# Altium footprint library Revo_connector.PcbLib: 95 footprints (part 2 of 6)
Each footprint in its own frame and in the unit in brackets; x right, y up, seen from the top. Pads: shape width x height; smd on the part's side, far side on the other; paste and mask are expansions set on the pad; w line width, h text height; cw(c..) or ccw(c..) is an arc to the next point about the centre after c.
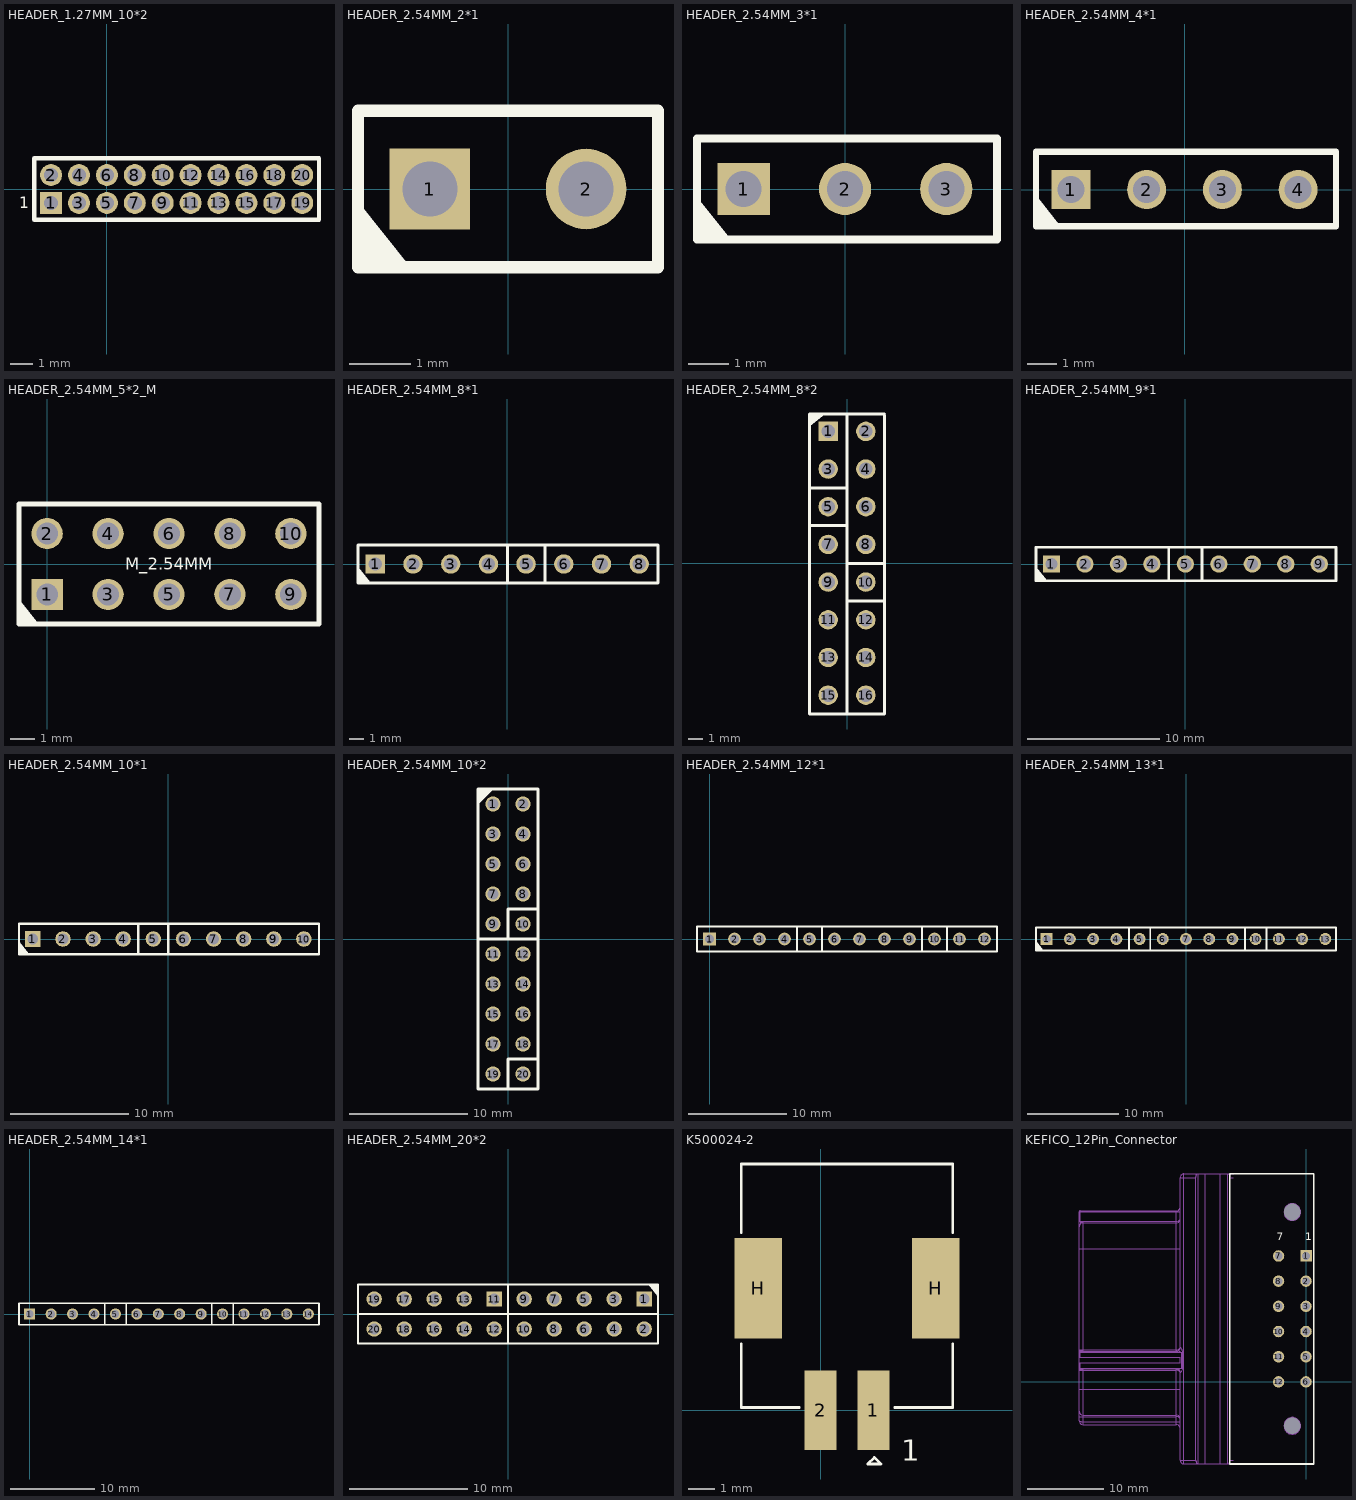
[diagram p1: the footprints below, top view; thin cyan lines are the x and y axes]

## HEADER_1.27MM_10*2 [mm] "HEADER_1.27MM_10*2"
pads (20):
  rect 1x1 hole 0.65 mask+0.05: 1(-2.54,-0.635)
  round 1 hole 0.65 mask+0.05: 2(-2.54,0.635) 3(-1.27,-0.635) 4(-1.27,0.635) 5(0,-0.635) 6(0,0.635) 7(1.27,-0.635) 8(1.27,0.635) 9(2.54,-0.635) 10(2.54,0.635) 11(3.81,-0.635) 12(3.81,0.635) 13(5.08,-0.635) 14(5.08,0.635) 15(6.35,-0.635) 16(6.35,0.635) 17(7.62,-0.635) 18(7.62,0.635) 19(8.89,-0.635) 20(8.89,0.635)
Top Overlay:
  lines w0.203: -3.302,-1.397 -3.302,1.397 9.652,1.397 9.652,-1.397 -3.302,-1.397
  text "1" at -4,-0.865 h0.51

## HEADER_2.54MM_2*1 [mm] "Header Pin 2.54mm pitch 2Pin(2X1)"
pads (2):
  rect 1.31x1.31 hole 0.9 mask+0.1: 1(-1.27,0)
  round 1.31 hole 0.9 mask+0.1: 2(1.27,0)
Top Overlay:
  region: -2.42,-0.23 -2.42,-1.23 -1.62,-1.23
  lines w0.203: -2.44,-1.27 -2.44,1.27 2.44,1.27 2.44,-1.27 -2.395,-1.27
3D body "User Library-Header Vertical 2_54mm Pitch2-1.step": height 6.04, standoff -2.84, extent 0,-1.27 2.54,1.27
3D body "User Library-Header Vertical 2_54mm Pitch2-1.step": height 6.04, standoff -2.84, extent -2.54,-1.27 0,1.27

## HEADER_2.54MM_3*1 [mm] "Header Pin 2.54mm pitch 3Pin(3X1)"
pads (3):
  rect 1.31x1.31 hole 0.9 mask+0.1: 1(-2.54,0)
  round 1.31 hole 0.9 mask+0.1: 2(0,0) 3(2.54,0)
Top Overlay:
  region: -3.69,-0.23 -3.69,-1.23 -2.89,-1.23
  lines w0.203: -3.71,-1.27 -3.71,1.27 3.81,1.27 3.81,-1.27 -3.665,-1.27

## HEADER_2.54MM_4*1 [mm] "Header Pin 2.54mm pitch 4Pin(4X1)"
pads (4):
  rect 1.31x1.31 hole 0.9 mask+0.1: 1(-3.81,0)
  round 1.31 hole 0.9 mask+0.1: 2(-1.27,0) 3(1.27,0) 4(3.81,0)
Top Overlay:
  region: -4.96,-0.23 -4.96,-1.23 -4.16,-1.23
  lines w0.203: -4.98,-1.23 -4.98,1.27 5.08,1.27 5.08,-1.23 -4.935,-1.23

## HEADER_2.54MM_5*2_M [mm] "Header Pin 2.54mm pitch 10Pin(5X2)_3D"
pads (10):
  rect 1.31x1.31 hole 0.9 mask+0.1: 1(0,-1.27)
  round 1.31 hole 0.9 mask+0.1: 2(0,1.27) 3(2.54,-1.27) 4(2.54,1.27) 5(5.08,-1.27) 6(5.08,1.27) 7(7.62,-1.27) 8(7.62,1.27) 9(10.16,-1.27) 10(10.16,1.27)
Top Overlay:
  region: -1.15,-1.5 -1.15,-2.5 -0.35,-2.5
  lines w0.203: -1.17,-2.5 -1.17,2.5 ; -1.125,-2.5 11.25,-2.5 ; -1.125,2.5 11.25,2.5 ; 11.33,-2.5 11.33,2.5
  text "M_2.54MM" at 3.25,-0.25 h0.5
3D body "User Library-Header Vertical 2_54mm Pitch2-1.step": height 6.04, standoff -2.84, extent -1.27,-2.54 1.27,0
3D body "User Library-Header Vertical 2_54mm Pitch2-1.step": height 6.04, standoff -2.84, extent 1.27,-2.54 3.81,0
3D body "User Library-Header Vertical 2_54mm Pitch2-1.step": height 6.04, standoff -2.84, extent 3.81,-2.54 6.35,0
3D body "User Library-Header Vertical 2_54mm Pitch2-1.step": height 6.04, standoff -2.84, extent 6.35,-2.54 8.89,0
3D body "User Library-Header Vertical 2_54mm Pitch2-1.step": height 6.04, standoff -2.84, extent 8.89,-2.54 11.43,0
3D body "User Library-Header Vertical 2_54mm Pitch2-1.step": height 6.04, standoff -2.84, extent 8.89,0 11.43,2.54
3D body "User Library-Header Vertical 2_54mm Pitch2-1.step": height 6.04, standoff -2.84, extent 6.35,0 8.89,2.54
3D body "User Library-Header Vertical 2_54mm Pitch2-1.step": height 6.04, standoff -2.84, extent 3.81,0 6.35,2.54
3D body "User Library-Header Vertical 2_54mm Pitch2-1.step": height 6.04, standoff -2.84, extent 1.27,0 3.81,2.54
3D body "User Library-Header Vertical 2_54mm Pitch2-1.step": height 6.04, standoff -2.84, extent -1.27,0 1.27,2.54

## HEADER_2.54MM_8*1 [mm] "Header Pin 2.54mm pitch 8Pin(8X1)"
pads (8):
  rect 1.31x1.31 hole 0.9 mask+0.1: 1(-8.89,0)
  round 1.31 hole 0.9 mask+0.1: 2(-6.35,0) 3(-3.81,0) 4(-1.27,0) 5(1.27,0) 6(3.81,0) 7(6.35,0) 8(8.89,0)
Top Overlay:
  region: -10.04,-0.23 -10.04,-1.23 -9.24,-1.23
  lines w0.203: -10.06,-1.27 -10.06,1.27 10.16,1.27 10.16,-1.27 -10.015,-1.27 ; 0,-1.27 0,1.27 ; 2.54,-1.27 2.54,1.27

## HEADER_2.54MM_8*2 [mm] "Header Pin 2.54mm pitch 16Pin(8X2)"
pads (16):
  rect 1.31x1.31 hole 0.9 mask+0.1: 1(-1.27,8.89)
  round 1.31 hole 0.9 mask+0.1: 2(1.27,8.89) 3(-1.27,6.35) 4(1.27,6.35) 5(-1.27,3.81) 6(1.27,3.81) 7(-1.27,1.27) 8(1.27,1.27) 9(-1.27,-1.27) 10(1.27,-1.27) 11(-1.27,-3.81) 12(1.27,-3.81) 13(-1.27,-6.35) 14(1.27,-6.35) 15(-1.27,-8.89) 16(1.27,-8.89)
Top Overlay:
  region: -1.5,10.04 -2.5,10.04 -2.5,9.24
  lines w0.203: -2.54,2.54 0,2.54 ; -2.54,5.08 0,5.08 ; -2.54,10.015 -2.54,-10.16 0,-10.16 ; -2.54,10.06 0,10.06 ; 0,-2.54 2.54,-2.54 ; 0,0 2.54,0 ; 2.54,9.96 2.54,-10.16 0,-10.16 ; 2.54,10.06 0,10.06 ; 0,-10.16 0,10.06

## HEADER_2.54MM_9*1 [mm] "Header Pin 2.54mm pitch 9Pin(9X1)"
pads (9):
  rect 1.31x1.31 hole 0.9 mask+0.1: 1(-10.16,0)
  round 1.31 hole 0.9 mask+0.1: 2(-7.62,0) 3(-5.08,0) 4(-2.54,0) 5(0,0) 6(2.54,0) 7(5.08,0) 8(7.62,0) 9(10.16,0)
Top Overlay:
  region: -11.31,-0.23 -11.31,-1.23 -10.51,-1.23
  lines w0.203: -11.33,-1.27 -11.33,1.27 11.43,1.27 11.43,-1.27 -11.285,-1.27 ; -1.27,-1.27 -1.27,1.27 ; 1.27,-1.27 1.27,1.27

## HEADER_2.54MM_10*1 [mm] "Header Pin 2.54mm pitch 10Pin(10X1)"
pads (11):
  rect 1.31x1.31 hole 0.9 mask+0.1: 1(-11.43,0)
  round 1.31 hole 0.9 mask+0.1: 2(-8.89,0) 3(-6.35,0) 4(-3.81,0) 5(-1.27,0) 6(1.27,0) 7(3.81,0) 8(6.35,0) 9(8.89,0) 9(8.89,0) 10(11.43,0)
Top Overlay:
  region: -12.58,-0.23 -12.58,-1.23 -11.78,-1.23
  lines w0.203: -12.6,-1.27 -12.6,1.27 12.7,1.27 12.7,-1.27 -12.555,-1.27 ; -2.54,-1.27 -2.54,1.27 ; 0,-1.27 0,1.27
3D body "User Library-RM254_1pin.step": height 6.03, standoff -3.09, extent 10.16,-1.27 12.7,1.27
3D body "User Library-RM254_1pin.step": height 6.03, standoff -3.09, extent 7.62,-1.27 10.16,1.27
3D body "User Library-RM254_1pin.step": height 6.03, standoff -3.09, extent 5.08,-1.27 7.62,1.27
3D body "User Library-RM254_1pin.step": height 6.03, standoff -3.09, extent 2.54,-1.27 5.08,1.27
3D body "User Library-RM254_1pin.step": height 6.03, standoff -3.09, extent 0,-1.27 2.54,1.27
3D body "User Library-RM254_1pin.step": height 6.03, standoff -3.09, extent -2.54,-1.27 0,1.27
3D body "User Library-RM254_1pin.step": height 6.03, standoff -3.09, extent -5.08,-1.27 -2.54,1.27
3D body "User Library-RM254_1pin.step": height 6.03, standoff -3.09, extent -7.62,-1.27 -5.08,1.27
3D body "User Library-RM254_1pin.step": height 6.03, standoff -3.09, extent -10.16,-1.27 -7.62,1.27
3D body "User Library-RM254_1pin.step": height 6.03, standoff -3.09, extent -12.7,-1.27 -10.16,1.27

## HEADER_2.54MM_10*2 [mm] "HEADER_2.54MM_10*2 (20Pin)"
pads (20):
  round 1.31 hole 0.9 mask+0.05: 1(-1.27,11.43) 2(1.27,11.43) 3(-1.27,8.89) 4(1.27,8.89) 5(-1.27,6.35) 6(1.27,6.35) 7(-1.27,3.81) 8(1.27,3.81) 9(-1.27,1.27) 10(1.27,1.27) 11(-1.27,-1.27) 12(1.27,-1.27) 13(-1.27,-3.81) 14(1.27,-3.81) 15(-1.27,-6.35) 16(1.27,-6.35) 17(-1.27,-8.89) 18(1.27,-8.89) 19(-1.27,-11.43) 20(1.27,-11.43)
Top Overlay:
  region: -2.54,12.7 -1.27,12.7 -2.54,11.43
  lines w0.254: -2.54,0 2.54,0 ; 0,-12.7 0,-10.16 2.54,-10.16 ; 0,0 0,2.54 2.54,2.54 ; -2.54,-12.7 -2.54,12.7 2.54,12.7 2.54,-12.7 -2.54,-12.7

## HEADER_2.54MM_12*1 [mm] "Header Pin 2.54mm pitch 13Pin(13X1)"
pads (12):
  rect 1.31x1.31 hole 0.9 mask+0.1: 1(0,0)
  round 1.31 hole 0.9 mask+0.1: 2(2.54,0) 3(5.08,0) 4(7.62,0) 5(10.16,0) 6(12.7,0) 7(15.24,0) 8(17.78,0) 9(20.32,0) 10(22.86,0) 11(25.4,0) 12(27.94,0)
Top Overlay:
  lines w0.203: 8.89,-1.27 8.89,1.27 ; 11.43,-1.27 11.43,1.27 ; 21.59,-1.27 21.59,1.27 ; 24.13,-1.27 24.13,1.27 ; -1.27,-1.27 -1.27,1.27 29.21,1.27 29.21,-1.27 -1.27,-1.27

## HEADER_2.54MM_13*1 [mm] "Header Pin 2.54mm pitch 13Pin(13X1)"
pads (13):
  rect 1.31x1.31 hole 0.9 mask+0.1: 1(-15.24,0)
  round 1.31 hole 0.9 mask+0.1: 2(-12.7,0) 3(-10.16,0) 4(-7.62,0) 5(-5.08,0) 6(-2.54,0) 7(0,0) 8(2.54,0) 9(5.08,0) 10(7.62,0) 11(10.16,0) 12(12.7,0) 13(15.24,0)
Top Overlay:
  region: -16.39,-0.23 -16.39,-1.23 -15.59,-1.23
  lines w0.203: -16.41,-1.27 -16.41,1.27 16.41,1.27 16.41,-1.27 -16.365,-1.27 ; -6.25,-1.27 -6.25,1.27 ; -3.91,-1.27 -3.91,1.27 ; 6.45,-1.27 6.45,1.27 ; 8.79,-1.27 8.79,1.27

## HEADER_2.54MM_14*1 [mm] "Header Pin 2.54mm pitch 13Pin(13X1)"
pads (14):
  rect 1.31x1.31 hole 0.9 mask+0.1: 1(0,0)
  round 1.31 hole 0.9 mask+0.1: 2(2.54,0) 3(5.08,0) 4(7.62,0) 5(10.16,0) 6(12.7,0) 7(15.24,0) 8(17.78,0) 9(20.32,0) 10(22.86,0) 11(25.4,0) 12(27.94,0) 13(30.48,0) 14(33.02,0)
Top Overlay:
  lines w0.203: 8.89,-1.27 8.89,1.27 ; 11.43,-1.27 11.43,1.27 ; 21.59,-1.27 21.59,1.27 ; 24.13,-1.27 24.13,1.27 ; -1.27,-1.27 -1.27,1.27 34.29,1.27 34.29,-1.27 -1.27,-1.27

## HEADER_2.54MM_20*2 [mm] "Header Pin 2.54mm pitch 20Pin(20X2)_3D"
pads (20):
  rect 1.31x1.31 hole 0.9 mask+0.1: 1(11.53,1.27) 11(-1.17,1.27)
  round 1.31 hole 0.9 mask+0.1: 2(11.53,-1.27) 3(8.99,1.27) 4(8.99,-1.27) 5(6.45,1.27) 6(6.45,-1.27) 7(3.91,1.27) 8(3.91,-1.27) 9(1.37,1.27) 10(1.37,-1.27) 12(-1.17,-1.27) 13(-3.71,1.27) 14(-3.71,-1.27) 15(-6.25,1.27) 16(-6.25,-1.27) 17(-8.79,1.27) 18(-8.79,-1.27) 19(-11.33,1.27) 20(-11.33,-1.27)
Top Overlay:
  region: 12.68,1.5 12.68,2.5 11.88,2.5
  lines w0.203: -12.7,0 12.7,0 ; 0,-2.5 0,2.5 ; 12.655,2.5 -12.7,2.5 -12.7,-2.5 12.7,-2.5 12.7,2.5

## K500024-2 [mm]
pads (4):
  rect 1.2x3 smd: 1(2,0) 2(0,0)
  rect 1.8x3.8 smd: H(-2.35,4.6) H(4.35,4.6)
Top Overlay:
  lines w0.1: -3,2.5 -3,0.1 -0.8,0.1 ; -3,6.7 -3,9.3 5,9.3 5,6.7 ; 2.8,0.1 5,0.1 5,2.5 ; 1.778,-2.032 2.032,-1.778 2.286,-2.032 1.778,-2.032
  text "1" at 3.048,-1.905 h0.8
3D body "K500024-2_step.stp": height 5.7, standoff 0, extent -3,-0.7 5,9.3

## KEFICO_12Pin_Connector [mm]
pads (14):
  rect 1.5x1.5 hole 1 paste-2539.97: 1(0,16.5)
  round 1.5 hole 1: 2(0,13.2) 3(0,9.9) 4(0,6.6) 5(0,3.3) 6(0,0) 7(-3.6,16.5) 8(-3.6,13.2) 9(-3.6,9.9) 10(-3.6,6.6) 11(-3.6,3.3) 12(-3.6,0)
  round 0 hole 2.2: H(-1.8,-5.75) H(-1.8,22.25)
Top Overlay:
  lines w0.2: -10,-10.75 -10,27.25 1,27.25 1,-10.75 -10,-10.75
  text "1" at -0.127,18.542 h1
  text "7" at -3.81,18.542 h1
Mechanical 1:
  drawing of 861 lines, arcs and shapes, not listed
3D body "connector2.stp": height 16.4, standoff -3.95, extent -29.993,-10.79 0.508,27.25